# EAGLE library part RASPBERRY_PI_PICO-HEADERS-NO_DEBUG+HOLES (library Raspberry_Pi_Pico_Library)
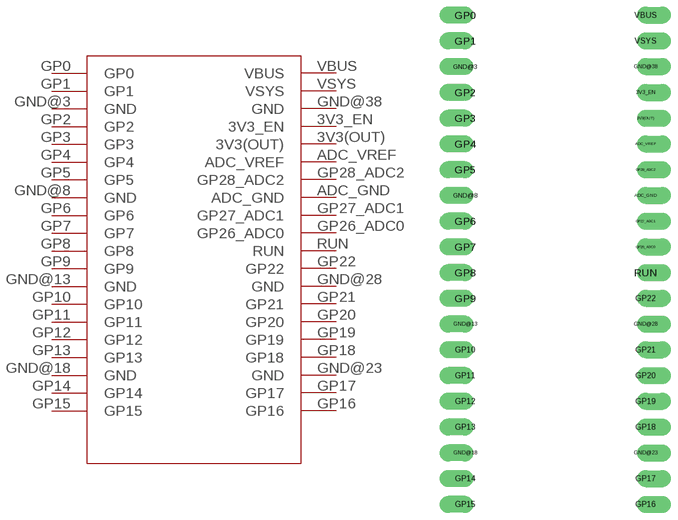
[diagram p3: symbol with the pads of RASPBERRY_PI_PICO_FOOTPRINT_NO_DEBUG+HOLES; footprint RASPBERRY_PI_PICO_FOOTPRINT_NO_DEBUG+HOLES]

Designator prefix -

## RASPBERRY_PI_PICO-HEADERS-NO_DEBUG+HOLES  [RASPBERRY_PI_PICO_FOOTPRINT_NO_DEBUG+HOLES]
3V3(OUT)  3V3(OUT)
3V3_EN  3V3_EN
ADC_GND  ADC_GND
ADC_VREF  ADC_VREF
GND@3  GND
GND@8  GND
GND@13  GND
GND@18  GND
GND@23  GND
GND@28  GND
GND@38  GND
GP0  GP0
GP1  GP1
GP2  GP2
GP3  GP3
GP4  GP4
GP5  GP5
GP6  GP6
GP7  GP7
GP8  GP8
GP9  GP9
GP10  GP10
GP11  GP11
GP12  GP12
GP13  GP13
GP14  GP14
GP15  GP15
GP16  GP16
GP17  GP17
GP18  GP18
GP19  GP19
GP20  GP20
GP21  GP21
GP22  GP22
GP26_ADC0  GP26_ADC0
GP27_ADC1  GP27_ADC1
GP28_ADC2  GP28_ADC2
RUN  RUN
VBUS  VBUS
VSYS  VSYS

## Footprint RASPBERRY_PI_PICO_FOOTPRINT_NO_DEBUG+HOLES (pad centres in mm)
drill 1 pad 1.676 offset: 3V3(OUT) 8.89,39.465; 3V3_EN 8.89,42.005; ADC_GND 8.89,31.845; ADC_VREF 8.89,36.925; GND@3 -8.89,44.545; GND@8 -8.89,31.845; GND@13 -8.89,19.145; GND@18 -8.89,6.445; GND@23 8.89,6.445; GND@28 8.89,19.145; GND@38 8.89,44.545; GP0 -8.89,49.625; GP1 -8.89,47.085; GP2 -8.89,42.005; GP3 -8.89,39.465; GP4 -8.89,36.925; GP5 -8.89,34.385; GP6 -8.89,29.305; GP7 -8.89,26.765; GP8 -8.89,24.225; GP9 -8.89,21.685; GP10 -8.89,16.605; GP11 -8.89,14.065; GP12 -8.89,11.525; GP13 -8.89,8.985; GP14 -8.89,3.905; GP15 -8.89,1.365; GP16 8.89,1.365; GP17 8.89,3.905; GP18 8.89,8.985; GP19 8.89,11.525; GP20 8.89,14.065; GP21 8.89,16.605; GP22 8.89,21.685; GP26_ADC0 8.89,26.765; GP27_ADC1 8.89,29.305; GP28_ADC2 8.89,34.385; RUN 8.89,24.225; VBUS 8.89,49.625; VSYS 8.89,47.085